# Altium schematic symbol library NtentePoC.SchLib: 37 symbols (part 2 of 2)
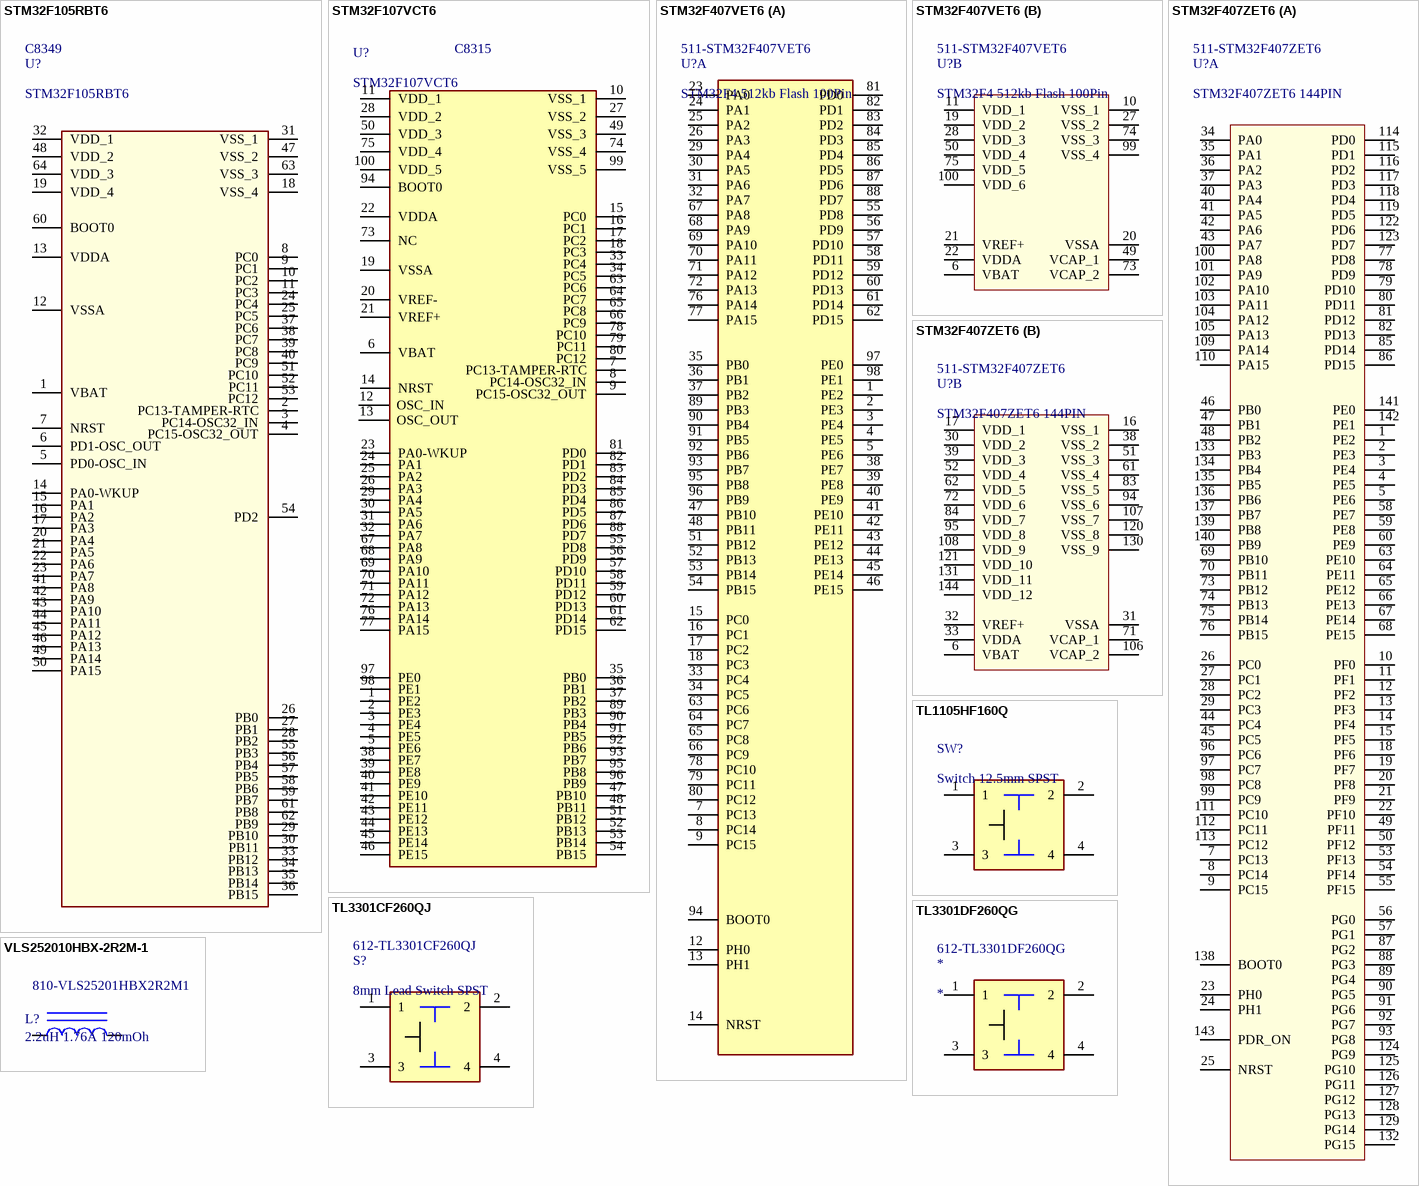
[diagram p2: symbols STM32F105RBT6 to VLS252010HBX-2R2M-1]

## STM32F407ZET6
designator U?, comment STM32F407ZET6 144PIN  Supplier Part Number 1: 511-STM32F407ZET6
MCU 32-bit STM32 ARM Cortex M4F RISC 512KB Flash 2.5V/3.3V 144-Pin LQFP Tray; Manufacturer: STMicroelectronics; Number of Timers/Counters: 14; Frequency: 168MHz; RAM Size: 192KB; Number of I/Os: 114; Max Supply Voltage: 3.6V; Min Supply Voltage: 1.8V; Interface: I2C; Data Bus Width: 32b; Oscillator Type: Internal; Number of USB Channels: 2; Number of ADC Channels: 24; Number of SPI Channels: 3; Number of Ethernet Channels: 1; Watchdog Timer: Yes; Peripherals: Brown-out Detect/Reset; Supplier 1: Mouser; Manufacturer Part Number: STM32F407ZET6; RoHS: Yes; Stock 1: 835; Pricing 1: 1 = 11,06000, 10 = 10,17000, 50 = 9,75000, 100 = 8,59000, 1000 = 7,01000, 10000 = 7,01000 (USD); Case/Package: LQFP; Number of Pins: 144; Min Operating Temperature: -40°C; Max Operating Temperature: 85°C; Package Quantity: 60; Packaging: Tray; Max Frequency: 168MHz; Memory Type: FLASH; Memory Size: 512KB; Core Architecture: ARM; Number of Programmable I/O: 114; Number of I2C Channels: 3; Number of UART Channels: 2; Length: 20.2mm; Height: 1.45mm; Width: 20.2mm; Radiation Hardening: No; REACH SVHC: No SVHC; Lead Free: Lead Free; ComponentLink1URL: https://datasheet.ciiva.com/16378/dm00037051-16378957.pdf?src-supplier=Future+Electronics; ComponentLink1Description: https://datasheet.ciiva.com/16378/dm00037051-16378957.pdf?src-supplier=Future+Electronics; ComponentLink2URL: https://datasheet.ciiva.com/6640/dm00037051-6640863.pdf?src-supplier=Digi-Key; ComponentLink2Description: https://datasheet.ciiva.com/6640/dm00037051-6640863.pdf?src-supplier=Digi-Key
footprint QFP50P2200X2200X160-144N
part A pins: 1 PE2, 2 PE3, 3 PE4, 4 PE5, 5 PE6, 7 PC13, 8 PC14, 9 PC15, 10 PF0, 11 PF1, 12 PF2, 13 PF3, 14 PF4, 15 PF5, 18 PF6, 19 PF7, 20 PF8, 21 PF9, 22 PF10, 23 PH0, 24 PH1, 25 NRST, 26 PC0, 27 PC1, 28 PC2, 29 PC3, 34 PA0, 35 PA1, 36 PA2, 37 PA3, 40 PA4, 41 PA5, 42 PA6, 43 PA7, 44 PC4, 45 PC5, 46 PB0, 47 PB1, 48 PB2, 49 PF11, 50 PF12, 53 PF13, 54 PF14, 55 PF15, 56 PG0, 57 PG1, 58 PE7, 59 PE8, 60 PE9, 63 PE10, 64 PE11, 65 PE12, 66 PE13, 67 PE14, 68 PE15, 69 PB10, 70 PB11, 73 PB12, 74 PB13, 75 PB14, 76 PB15, 77 PD8, 78 PD9, 79 PD10, 80 PD11, 81 PD12, 82 PD13, 85 PD14, 86 PD15, 87 PG2, 88 PG3, 89 PG4, 90 PG5, 91 PG6, 92 PG7, 93 PG8, 96 PC6, 97 PC7, 98 PC8, 99 PC9, 100 PA8, 101 PA9, 102 PA10, 103 PA11, 104 PA12, 105 PA13, 109 PA14, 110 PA15, 111 PC10, 112 PC11, 113 PC12, 114 PD0, 115 PD1, 116 PD2, 117 PD3, 118 PD4, 119 PD5, 122 PD6, 123 PD7, 124 PG9, 125 PG10, 126 PG11, 127 PG12, 128 PG13, 129 PG14, 132 PG15, 133 PB3, 134 PB4, 135 PB5, 136 PB6, 137 PB7, 138 BOOT0, 139 PB8, 140 PB9, 141 PE0, 142 PE1, 143 PDR_ON
part B pins: 6 VBAT, 16 VSS_1 (power), 17 VDD_1 (power), 30 VDD_2 (power), 31 VSSA (power), 32 VREF+, 33 VDDA (power), 38 VSS_2 (power), 39 VDD_3 (power), 51 VSS_3 (power), 52 VDD_4 (power), 61 VSS_4 (power), 62 VDD_5 (power), 71 VCAP_1, 72 VDD_6 (power), 83 VSS_5 (power), 84 VDD_7 (power), 94 VSS_6 (power), 95 VDD_8 (power), 106 VCAP_2, 107 VSS_7 (power), 108 VDD_9 (power), 120 VSS_8 (power), 121 VDD_10 (power), 130 VSS_9 (power), 131 VDD_11 (power), 144 VDD_12 (power)

## TL1105HF160Q
designator SW?, comment Switch 12.5mm SPST
Switch Tactile N.O. SPST Round Button PC Pins 0.05A 50VDC 1.57N Thru-Hole; Manufacturer: E-Switch; Manufacturer Part Number: TL1105HF160Q; Mechanical Life: 100000Cycles; Actuator Material: Nylon,Polyamide; Operating Force: 160gf; Illumination Type: Non-Illuminated; Switch Travel: 0.25mm; Switch Function: Off-Mom; Actuator Type: Standard; Voltage Rating (DC): 12V; Contact Resistance: 100mR; Current Rating: 50mA; Max Voltage Rating (DC): 50V; Actuator Length: 8.9mm; Supplier 1: Mouser; Stock 1: 6379; Pricing 1: 1=0.26, 10=0.252, 50=0.235, 100=0.221, 1000=0.152, 10000=0.126 (USD); Mount: Through Hole; Contact Material: Bronze,Silver; Contact Plating: Silver; Housing Material: Nylon; Min Operating Temperature: -20°C; Max Operating Temperature: 70°C; Package Quantity: 1000; Packaging: Bulk; Termination: PC Pin; Throw Configuration: SPST; Electrical Life: 100000Cycles; Orientation: Straight; Contact Current Rating: 50mA; Lead Free: Lead Free; ComponentLink1URL: https://www.e-switch.com/system/asset/product_line/data_sheet/144/TL1105.pdf?src-supplier=Digi-Key; ComponentLink1Description: https://www.e-switch.com/system/asset/product_line/data_sheet/144/TL1105.pdf?src-supplier=Digi-Key; ComponentLink2URL: http://www.e-switch.com/Portals/0/Series_Pdf/TL1105.pdf?src-supplier=Future+Electronics; ComponentLink2Description: http://www.e-switch.com/Portals/0/Series_Pdf/TL1105.pdf?src-supplier=Future+Electronics; Supplier Part Number 1: 612-TL1105HF160Q
footprint TL1105HF160Q
pins: 1, 2, 3, 4

## TL3301CF260QJ
designator S?, comment 8mm Lead Switch SPST  Supplier Part Number 1: 612-TL3301CF260QJ
Tactile Switches SMT Tact Switch SPST-NO 0.05A 12V; Manufacturer: E-Switch; Manufacturer Part Number: TL3301CF260QJ; Mechanical Life: 100000Cycles; Actuator Material: Nylon; Operating Force: 260gf; Illumination Type: Non-Illuminated; Switch Travel: 0.25mm; Switch Function: Off-Mom; Actuator Type: Standard; Current Rating: 50mA; Supplier 1: Mouser; RoHS: Yes; Stock 1: 690; Pricing 1: 1 = 0.33000, 10 = 0.27800, 50 = 0.24900, 100 = 0.23600, 1000 = 0.22200, 10000 = 0.22200 (USD); Mount: Surface Mount; Case/Package: SMD/SMT; Contact Plating: Silver; Min Operating Temperature: -25°C; Max Operating Temperature: 70°C; Package Quantity: 400; Packaging: Tape and Reel; Throw Configuration: SPST; Voltage Rating (DC): 12V; Lead Free: Lead Free; ComponentLink1URL: https://datasheet.ciiva.com/2903/tl3301-2903927.pdf?src-supplier=Digi-Key; ComponentLink1Description: https://datasheet.ciiva.com/2903/tl3301-2903927.pdf?src-supplier=Digi-Key
footprint TL3301 Series E-Switch J END
pins: 1, 2, 3, 4

## TL3301DF260QG
designator *  Supplier Part Number 1: 612-TL3301DF260QG
Tactile Switches SMT Tact Switch SPST-NO 0.05A 12V; Manufacturer: E-Switch; Manufacturer Part Number: TL3301DF260QG; Mechanical Life: 100000Cycles; Actuator Material: Nylon; Throw Configuration: SPST; Contact Resistance: 100mR; Operating Force: 260gf; Current Rating: 50mA; Illumination Type: Non-Illuminated; Switch Travel: 0.25mm; Switch Function: Off-Mom; Actuator Type: Standard; Actuator Length: 9.4mm; Supplier 1: Mouser; RoHS: Yes; Stock 1: 5997; Pricing 1: 1 = 0.34000, 10 = 0.33000, 50 = 0.27700, 100 = 0.25300, 1000 = 0.18800, 10000 = 0.17700 (USD); Mount: Surface Mount; Contact Plating: Silver; Contact Material: Silver; Housing Material: Nylon; Min Operating Temperature: -20°C; Max Operating Temperature: 70°C; Voltage Rating (DC): 12V; Packaging: Tape and Reel; Package Quantity: 300; Max Voltage Rating (DC): 12V; Termination: Gull Wing; Electrical Life: 100000Cycles; Orientation: Straight; Lead Free: Lead Free; ComponentLink1URL: https://datasheet.ciiva.com/16156/j100614-16156329.pdf?src-supplier=Onlinecomponents.com; ComponentLink1Description: https://datasheet.ciiva.com/16156/j100614-16156329.pdf?src-supplier=Onlinecomponents.com; ComponentLink2URL: https://datasheet.ciiva.com/2902/tl3301-2902770.pdf?src-supplier=Digi-Key; ComponentLink2Description: https://datasheet.ciiva.com/2902/tl3301-2902770.pdf?src-supplier=Digi-Key
pins: 1, 2, 3, 4

## VLS252010HBX-2R2M-1
designator L?, comment 2.2uH 1.76A 120mOh  Supplier Part Number 1: 810-VLS25201HBX2R2M1
FIXED IND 2.2UH 1.76A 120 MOHM; Manufacturer 1: TDK; Manufacturer Part Number 1: VLS252010HBX-2R2M-1; Core Material: Metal; Saturation Current: 2.3A; Shielding: Shielded; DC Resistance (DCR): 120mR; Test Frequency: 1MHz; RMS Current (Irms): 2.07A; Tolerance: 20%; Supplier 1: Mouser; Stock 1: 9720; Pricing 1: 1=0,39000, 10=0,34600, 100=0,24300, 500=0,20800, 1000=0,15900, 2000=0,12300, 10000=0,11900, 24000=0,11600, 50000=0,10800 (USD); RoHS: Yes; Mount: Surface Mount; Case/Package: 1008; Case Code (Metric): 2520; Case Code (Imperial): 1008; Min Operating Temperature: -40°C; Max Operating Temperature: 105°C; Packaging: Cut Tape; Composition: Wirewound; Inductance: 2.2uH; Current Rating: 1.76A; Inductance Tolerance: 20%; Length: 0.098inch; Width: 0.079inch; Height - Seated (Max): 0.039inch; REACH SVHC: No SVHC; Lead Free: Lead Free; ComponentLink1URL: http://www.farnell.com/datasheets/2130010.pdf?src-supplier=Farnell; ComponentLink1Description: http://www.farnell.com/datasheets/2130010.pdf?src-supplier=Farnell; ComponentLink2URL: http://www.farnell.com/datasheets/2130010.pdf?src-supplier=Newark; ComponentLink2Description: http://www.farnell.com/datasheets/2130010.pdf?src-supplier=Newark; ComponentLink3URL: http://www.farnell.com/datasheets/2130010.pdf?src-supplier=Element14; ComponentLink3Description: http://www.farnell.com/datasheets/2130010.pdf?src-supplier=Element14; ComponentLink4URL: https://product.tdk.com/info/en/catalog/datasheets/inductor_commercial_power_vls252010hbx-1_en.pdf?src-supplier=Digi-Key; ComponentLink4Description: https://product.tdk.com/info/en/catalog/datasheets/inductor_commercial_power_vls252010hbx-1_en.pdf?src-supplier=Digi-Key
footprint VLS252010HBX-2R2M-1
pins: 1, 2